# Altium schematic symbol library PCA9306DQER.Schlib: 1 symbol
Pins are listed as number, name and electrical type; pins without a type are passive.

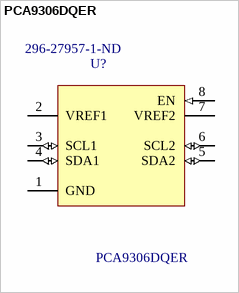
[diagram p0: symbol PCA9306DQER]

## PCA9306DQER
designator U?  Supplier Part Number 1: 296-27957-1-ND
Dual Bi-Directional I2C-Bus and SMBus Voltage Level-Translator 8-X2SON -40 to 85; MF: Texas Instruments; Price: None; Package: XFDFN-8 Texas Instruments; Availability: Unavailable; MP: PCA9306DQER; SnapEDA_Link: https://www.snapeda.com/parts/PCA9306DQER/Texas%20Instruments/view-part/?ref=snap; Value: *; Supplier 1: Digi-Key
footprint SON35P100X140X40-8N
pins: 1 GND (power), 2 VREF1 (power), 3 SCL1 (io), 4 SDA1 (io), 5 SDA2 (io), 6 SCL2 (io), 7 VREF2 (power), 8 EN (in)